# Altium schematic symbol library 2.3 - STM32 F0系列单片机.SchLib: 27 symbols (part 2 of 2)
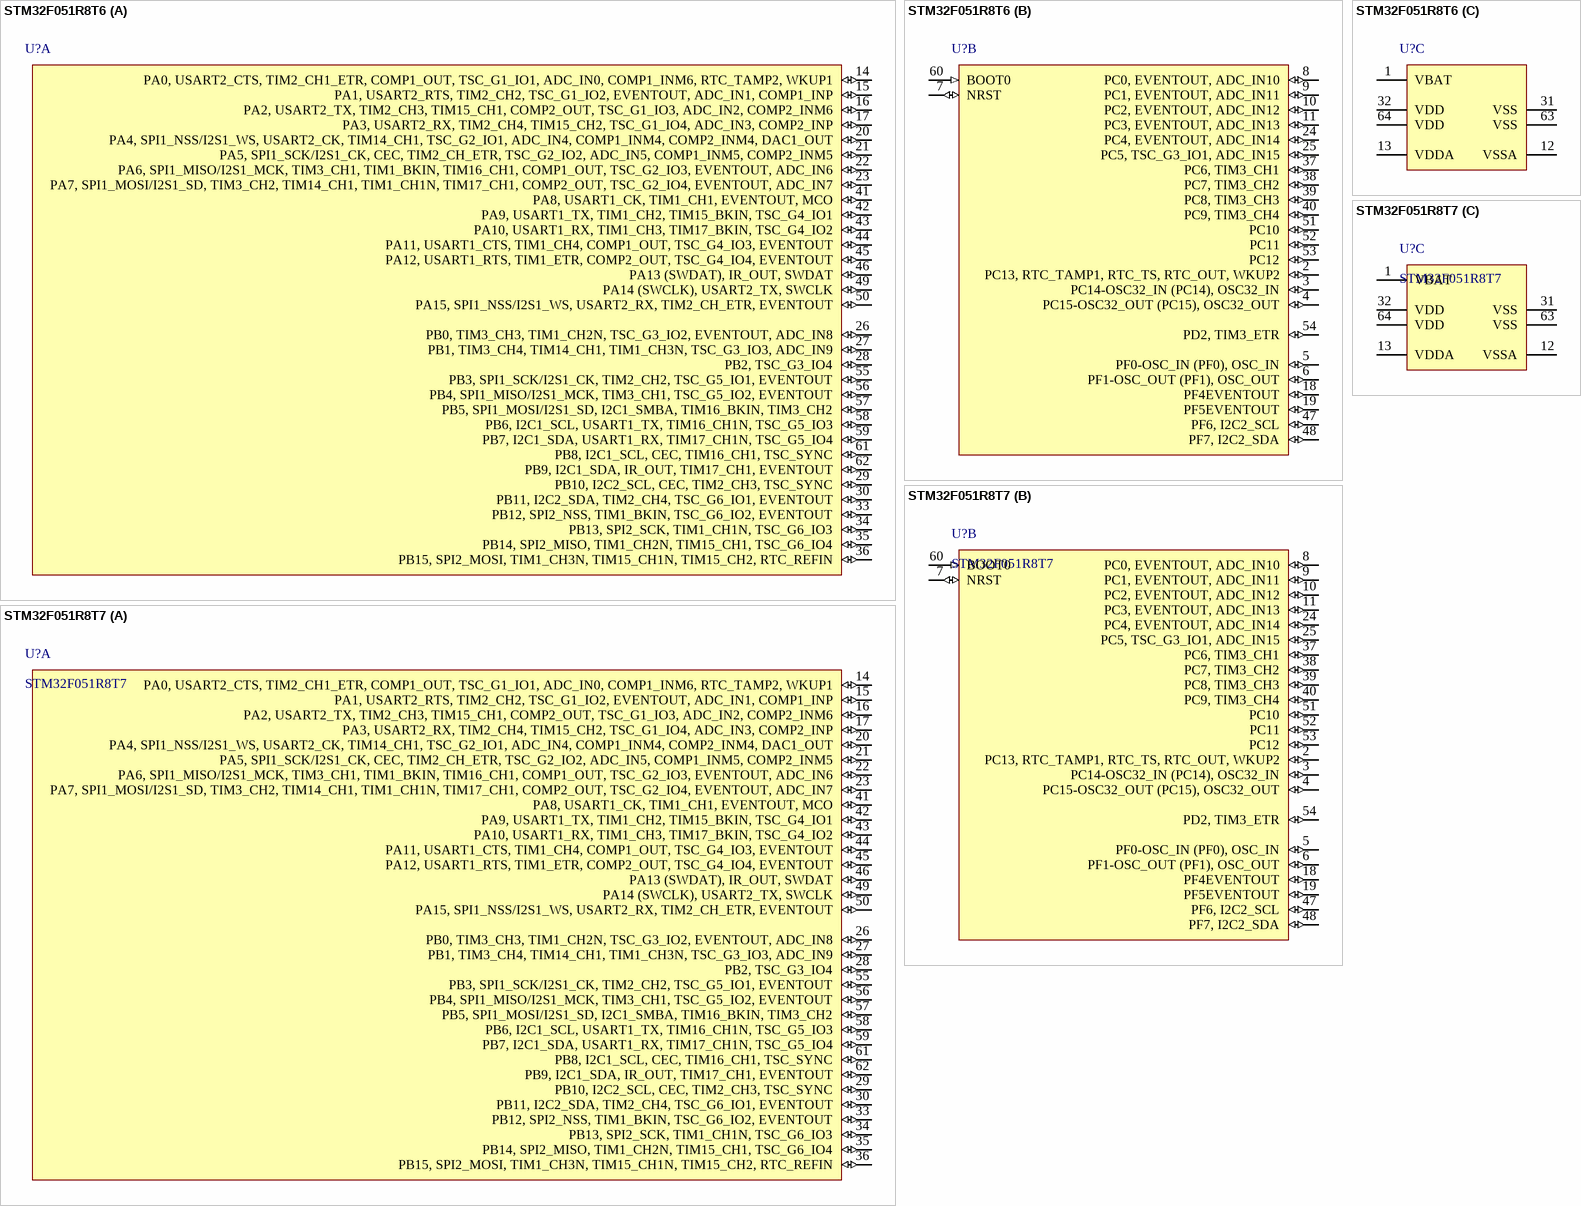
[diagram p9: symbols STM32F051R8T6 to STM32F051R8T7]

## STM32F051R8T6
designator U?
ARM Cortex-M0 32-bit RISC core (48 MHz max), 64kB Flash, 8 kB Internal RAM, 55 High Current I/Os, -40 to +85癈, 64-Pin LQFP, Tray; 0.7_ 封装规格: LQFP64; 0.6_ 封装说明: 64-Pin Low-Profile Quad Flat Pack, 10 x 10 mm Body, 0.5 mm Pitch (LQFP64); 0.2_ 16位定时器: 8x16-bit; 0.1_ 32位定时器: 1x32-bit; 0.3_ 其他定时器: 2 x WDG, RTC, 24-bit down counter; 0.4_ A/D转换: 16x12-bit; 0.5_ 串口资源: 1xSPI/I2S;1xSPI;2xI2C;2xUSART(IrDA, ISO 7816);CEC; 1.库作者: 冰凌猫; 2.库版本: v2.0 (2021.03.30); 3.交流分享: Q群514746572,开源更新,欢迎一起交流学习PCB设计; 4.作者声明: 旨为整合最全库集,欢迎转载,禁止商用！-冰凌猫; 5.备注说明: 该库已二次整合过网上各热销库,基本最全,无需重复搜购安装
footprint LQFP64_N (Thin QFP, 64-Leads, Body 10x10mm, Pitch 0.5mm, IPC Medium Density)
footprint LQFP64_L (Thin QFP, 64-Leads, Body 10x10mm, Pitch 0.5mm, IPC High Density)
footprint LQFP64_M (Thin QFP, 64-Leads, Body 10x10mm, Pitch 0.5mm, IPC Low Density)
part A pins: 14 PA0, USART2_CTS, TIM2_CH1_ETR, COMP1_OUT, TSC_G1_IO1, ADC_IN0, COMP1_INM6, RTC_TAMP2, WKUP1 (io), 15 PA1, USART2_RTS, TIM2_CH2, TSC_G1_IO2, EVENTOUT, ADC_IN1, COMP1_INP (io), 16 PA2, USART2_TX, TIM2_CH3, TIM15_CH1, COMP2_OUT, TSC_G1_IO3, ADC_IN2, COMP2_INM6 (io), 17 PA3, USART2_RX, TIM2_CH4, TIM15_CH2, TSC_G1_IO4, ADC_IN3, COMP2_INP (io), 20 PA4, SPI1_NSS/I2S1_WS, USART2_CK, TIM14_CH1, TSC_G2_IO1, ADC_IN4, COMP1_INM4, COMP2_INM4, DAC1_OUT (io), 21 PA5, SPI1_SCK/I2S1_CK, CEC, TIM2_CH_ETR, TSC_G2_IO2, ADC_IN5, COMP1_INM5, COMP2_INM5 (io), 22 PA6, SPI1_MISO/I2S1_MCK, TIM3_CH1, TIM1_BKIN, TIM16_CH1, COMP1_OUT, TSC_G2_IO3, EVENTOUT, ADC_IN6 (io), 23 PA7, SPI1_MOSI/I2S1_SD, TIM3_CH2, TIM14_CH1, TIM1_CH1N, TIM17_CH1, COMP2_OUT, TSC_G2_IO4, EVENTOUT, ADC_IN7 (io), 26 PB0, TIM3_CH3, TIM1_CH2N, TSC_G3_IO2, EVENTOUT, ADC_IN8 (io), 27 PB1, TIM3_CH4, TIM14_CH1, TIM1_CH3N, TSC_G3_IO3, ADC_IN9 (io), 28 PB2, TSC_G3_IO4 (io), 29 PB10, I2C2_SCL, CEC, TIM2_CH3, TSC_SYNC (io), 30 PB11, I2C2_SDA, TIM2_CH4, TSC_G6_IO1, EVENTOUT (io), 33 PB12, SPI2_NSS, TIM1_BKIN, TSC_G6_IO2, EVENTOUT (io), 34 PB13, SPI2_SCK, TIM1_CH1N, TSC_G6_IO3 (io), 35 PB14, SPI2_MISO, TIM1_CH2N, TIM15_CH1, TSC_G6_IO4 (io), 36 PB15, SPI2_MOSI, TIM1_CH3N, TIM15_CH1N, TIM15_CH2, RTC_REFIN (io), 41 PA8, USART1_CK, TIM1_CH1, EVENTOUT, MCO (io), 42 PA9, USART1_TX, TIM1_CH2, TIM15_BKIN, TSC_G4_IO1 (io), 43 PA10, USART1_RX, TIM1_CH3, TIM17_BKIN, TSC_G4_IO2 (io), 44 PA11, USART1_CTS, TIM1_CH4, COMP1_OUT, TSC_G4_IO3, EVENTOUT (io), 45 PA12, USART1_RTS, TIM1_ETR, COMP2_OUT, TSC_G4_IO4, EVENTOUT (io), 46 PA13 (SWDAT), IR_OUT, SWDAT (io), 49 PA14 (SWCLK), USART2_TX, SWCLK (io), 50 PA15, SPI1_NSS/I2S1_WS, USART2_RX, TIM2_CH_ETR, EVENTOUT (io), 55 PB3, SPI1_SCK/I2S1_CK, TIM2_CH2, TSC_G5_IO1, EVENTOUT (io), 56 PB4, SPI1_MISO/I2S1_MCK, TIM3_CH1, TSC_G5_IO2, EVENTOUT (io), 57 PB5, SPI1_MOSI/I2S1_SD, I2C1_SMBA, TIM16_BKIN, TIM3_CH2 (io), 58 PB6, I2C1_SCL, USART1_TX, TIM16_CH1N, TSC_G5_IO3 (io), 59 PB7, I2C1_SDA, USART1_RX, TIM17_CH1N, TSC_G5_IO4 (io), 61 PB8, I2C1_SCL, CEC, TIM16_CH1, TSC_SYNC (io), 62 PB9, I2C1_SDA, IR_OUT, TIM17_CH1, EVENTOUT (io)
part B pins: 2 PC13, RTC_TAMP1, RTC_TS, RTC_OUT, WKUP2 (io), 3 PC14-OSC32_IN (PC14), OSC32_IN (io), 4 PC15-OSC32_OUT (PC15), OSC32_OUT (io), 5 PF0-OSC_IN (PF0), OSC_IN (io), 6 PF1-OSC_OUT (PF1), OSC_OUT (io), 7 NRST (io), 8 PC0, EVENTOUT, ADC_IN10 (io), 9 PC1, EVENTOUT, ADC_IN11 (io), 10 PC2, EVENTOUT, ADC_IN12 (io), 11 PC3, EVENTOUT, ADC_IN13 (io), 18 PF4EVENTOUT (io), 19 PF5EVENTOUT (io), 24 PC4, EVENTOUT, ADC_IN14 (io), 25 PC5, TSC_G3_IO1, ADC_IN15 (io), 37 PC6, TIM3_CH1 (io), 38 PC7, TIM3_CH2 (io), 39 PC8, TIM3_CH3 (io), 40 PC9, TIM3_CH4 (io), 47 PF6, I2C2_SCL (io), 48 PF7, I2C2_SDA (io), 51 PC10 (io), 52 PC11 (io), 53 PC12 (io), 54 PD2, TIM3_ETR (io), 60 BOOT0 (in)
part C pins: 1 VBAT (power), 12 VSSA (power), 13 VDDA (power), 31 VSS (power), 32 VDD (power), 63 VSS (power), 64 VDD (power)

## STM32F051R8T7
designator U?
ARM Cortex-M0 32-bit RISC core (48 MHz max), 64kB Flash, 8 kB Internal RAM, 55 High Current I/Os, -40 to +105癈, 64-Pin LQFP, Tray; 0.7_ 封装规格: LQFP64; 0.6_ 封装说明: 64-Pin Low-Profile Quad Flat Pack, 10 x 10 mm Body, 0.5 mm Pitch (LQFP64); 0.2_ 16位定时器: 8x16-bit; 0.1_ 32位定时器: 1x32-bit; 0.3_ 其他定时器: 2 x WDG, RTC, 24-bit down counter; 0.4_ A/D转换: 16x12-bit; 0.5_ 串口资源: 1xSPI/I2S;1xSPI;2xI2C;2xUSART(IrDA, ISO 7816);CEC; 1.库作者: 冰凌猫; 2.库版本: v2.0 (2021.03.30); 3.交流分享: Q群514746572,开源更新,欢迎一起交流学习PCB设计; 4.作者声明: 旨为整合最全库集,欢迎转载,禁止商用！-冰凌猫; 5.备注说明: 该库已二次整合过网上各热销库,基本最全,无需重复搜购安装
footprint LQFP64_N (Thin QFP, 64-Leads, Body 10x10mm, Pitch 0.5mm, IPC Medium Density)
footprint LQFP64_L (Thin QFP, 64-Leads, Body 10x10mm, Pitch 0.5mm, IPC High Density)
footprint LQFP64_M (Thin QFP, 64-Leads, Body 10x10mm, Pitch 0.5mm, IPC Low Density)
part A pins: 14 PA0, USART2_CTS, TIM2_CH1_ETR, COMP1_OUT, TSC_G1_IO1, ADC_IN0, COMP1_INM6, RTC_TAMP2, WKUP1 (io), 15 PA1, USART2_RTS, TIM2_CH2, TSC_G1_IO2, EVENTOUT, ADC_IN1, COMP1_INP (io), 16 PA2, USART2_TX, TIM2_CH3, TIM15_CH1, COMP2_OUT, TSC_G1_IO3, ADC_IN2, COMP2_INM6 (io), 17 PA3, USART2_RX, TIM2_CH4, TIM15_CH2, TSC_G1_IO4, ADC_IN3, COMP2_INP (io), 20 PA4, SPI1_NSS/I2S1_WS, USART2_CK, TIM14_CH1, TSC_G2_IO1, ADC_IN4, COMP1_INM4, COMP2_INM4, DAC1_OUT (io), 21 PA5, SPI1_SCK/I2S1_CK, CEC, TIM2_CH_ETR, TSC_G2_IO2, ADC_IN5, COMP1_INM5, COMP2_INM5 (io), 22 PA6, SPI1_MISO/I2S1_MCK, TIM3_CH1, TIM1_BKIN, TIM16_CH1, COMP1_OUT, TSC_G2_IO3, EVENTOUT, ADC_IN6 (io), 23 PA7, SPI1_MOSI/I2S1_SD, TIM3_CH2, TIM14_CH1, TIM1_CH1N, TIM17_CH1, COMP2_OUT, TSC_G2_IO4, EVENTOUT, ADC_IN7 (io), 26 PB0, TIM3_CH3, TIM1_CH2N, TSC_G3_IO2, EVENTOUT, ADC_IN8 (io), 27 PB1, TIM3_CH4, TIM14_CH1, TIM1_CH3N, TSC_G3_IO3, ADC_IN9 (io), 28 PB2, TSC_G3_IO4 (io), 29 PB10, I2C2_SCL, CEC, TIM2_CH3, TSC_SYNC (io), 30 PB11, I2C2_SDA, TIM2_CH4, TSC_G6_IO1, EVENTOUT (io), 33 PB12, SPI2_NSS, TIM1_BKIN, TSC_G6_IO2, EVENTOUT (io), 34 PB13, SPI2_SCK, TIM1_CH1N, TSC_G6_IO3 (io), 35 PB14, SPI2_MISO, TIM1_CH2N, TIM15_CH1, TSC_G6_IO4 (io), 36 PB15, SPI2_MOSI, TIM1_CH3N, TIM15_CH1N, TIM15_CH2, RTC_REFIN (io), 41 PA8, USART1_CK, TIM1_CH1, EVENTOUT, MCO (io), 42 PA9, USART1_TX, TIM1_CH2, TIM15_BKIN, TSC_G4_IO1 (io), 43 PA10, USART1_RX, TIM1_CH3, TIM17_BKIN, TSC_G4_IO2 (io), 44 PA11, USART1_CTS, TIM1_CH4, COMP1_OUT, TSC_G4_IO3, EVENTOUT (io), 45 PA12, USART1_RTS, TIM1_ETR, COMP2_OUT, TSC_G4_IO4, EVENTOUT (io), 46 PA13 (SWDAT), IR_OUT, SWDAT (io), 49 PA14 (SWCLK), USART2_TX, SWCLK (io), 50 PA15, SPI1_NSS/I2S1_WS, USART2_RX, TIM2_CH_ETR, EVENTOUT (io), 55 PB3, SPI1_SCK/I2S1_CK, TIM2_CH2, TSC_G5_IO1, EVENTOUT (io), 56 PB4, SPI1_MISO/I2S1_MCK, TIM3_CH1, TSC_G5_IO2, EVENTOUT (io), 57 PB5, SPI1_MOSI/I2S1_SD, I2C1_SMBA, TIM16_BKIN, TIM3_CH2 (io), 58 PB6, I2C1_SCL, USART1_TX, TIM16_CH1N, TSC_G5_IO3 (io), 59 PB7, I2C1_SDA, USART1_RX, TIM17_CH1N, TSC_G5_IO4 (io), 61 PB8, I2C1_SCL, CEC, TIM16_CH1, TSC_SYNC (io), 62 PB9, I2C1_SDA, IR_OUT, TIM17_CH1, EVENTOUT (io)
part B pins: 2 PC13, RTC_TAMP1, RTC_TS, RTC_OUT, WKUP2 (io), 3 PC14-OSC32_IN (PC14), OSC32_IN (io), 4 PC15-OSC32_OUT (PC15), OSC32_OUT (io), 5 PF0-OSC_IN (PF0), OSC_IN (io), 6 PF1-OSC_OUT (PF1), OSC_OUT (io), 7 NRST (io), 8 PC0, EVENTOUT, ADC_IN10 (io), 9 PC1, EVENTOUT, ADC_IN11 (io), 10 PC2, EVENTOUT, ADC_IN12 (io), 11 PC3, EVENTOUT, ADC_IN13 (io), 18 PF4EVENTOUT (io), 19 PF5EVENTOUT (io), 24 PC4, EVENTOUT, ADC_IN14 (io), 25 PC5, TSC_G3_IO1, ADC_IN15 (io), 37 PC6, TIM3_CH1 (io), 38 PC7, TIM3_CH2 (io), 39 PC8, TIM3_CH3 (io), 40 PC9, TIM3_CH4 (io), 47 PF6, I2C2_SCL (io), 48 PF7, I2C2_SDA (io), 51 PC10 (io), 52 PC11 (io), 53 PC12 (io), 54 PD2, TIM3_ETR (io), 60 BOOT0 (in)
part C pins: 1 VBAT (power), 12 VSSA (power), 13 VDDA (power), 31 VSS (power), 32 VDD (power), 63 VSS (power), 64 VDD (power)

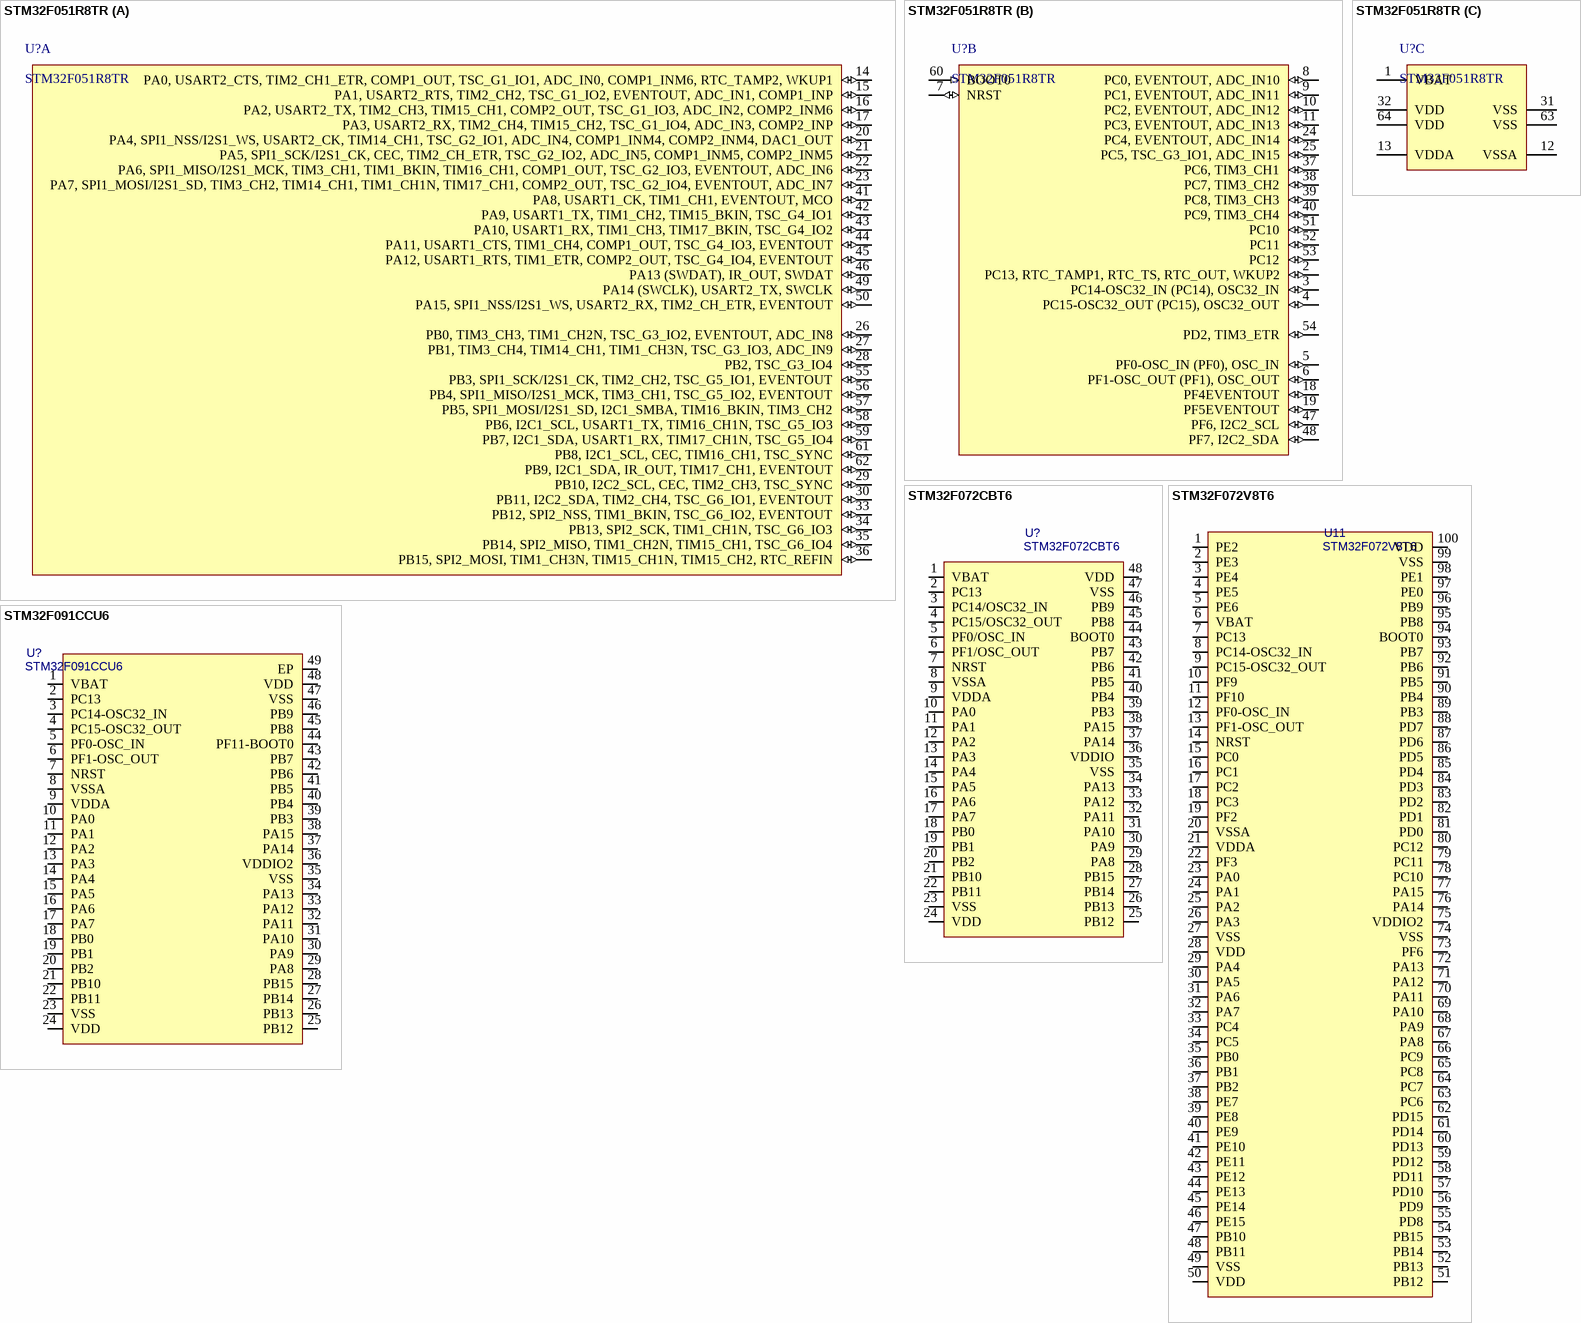
[diagram p8: symbols STM32F051R8TR to STM32F091CCU6]

## STM32F051R8TR
designator U?
ARM Cortex-M0 32-bit RISC core (48 MHz max), 64kB Flash, 8 kB Internal RAM, 55 High Current I/Os, -40 to +105癈, 64-Pin LQFP, Tape and Reel; 0.7_ 封装规格: LQFP64; 0.6_ 封装说明: 64-Pin Low-Profile Quad Flat Pack, 10 x 10 mm Body, 0.5 mm Pitch (LQFP64); 0.2_ 16位定时器: 8x16-bit; 0.1_ 32位定时器: 1x32-bit; 0.3_ 其他定时器: 2 x WDG, RTC, 24-bit down counter; 0.4_ A/D转换: 16x12-bit; 0.5_ 串口资源: 1xSPI/I2S;1xSPI;2xI2C;2xUSART(IrDA, ISO 7816);CEC; 1.库作者: 冰凌猫; 2.库版本: v2.0 (2021.03.30); 3.交流分享: Q群514746572,开源更新,欢迎一起交流学习PCB设计; 4.作者声明: 旨为整合最全库集,欢迎转载,禁止商用！-冰凌猫; 5.备注说明: 该库已二次整合过网上各热销库,基本最全,无需重复搜购安装
footprint LQFP64_N (Thin QFP, 64-Leads, Body 10x10mm, Pitch 0.5mm, IPC Medium Density)
footprint LQFP64_L (Thin QFP, 64-Leads, Body 10x10mm, Pitch 0.5mm, IPC High Density)
footprint LQFP64_M (Thin QFP, 64-Leads, Body 10x10mm, Pitch 0.5mm, IPC Low Density)
part A pins: 14 PA0, USART2_CTS, TIM2_CH1_ETR, COMP1_OUT, TSC_G1_IO1, ADC_IN0, COMP1_INM6, RTC_TAMP2, WKUP1 (io), 15 PA1, USART2_RTS, TIM2_CH2, TSC_G1_IO2, EVENTOUT, ADC_IN1, COMP1_INP (io), 16 PA2, USART2_TX, TIM2_CH3, TIM15_CH1, COMP2_OUT, TSC_G1_IO3, ADC_IN2, COMP2_INM6 (io), 17 PA3, USART2_RX, TIM2_CH4, TIM15_CH2, TSC_G1_IO4, ADC_IN3, COMP2_INP (io), 20 PA4, SPI1_NSS/I2S1_WS, USART2_CK, TIM14_CH1, TSC_G2_IO1, ADC_IN4, COMP1_INM4, COMP2_INM4, DAC1_OUT (io), 21 PA5, SPI1_SCK/I2S1_CK, CEC, TIM2_CH_ETR, TSC_G2_IO2, ADC_IN5, COMP1_INM5, COMP2_INM5 (io), 22 PA6, SPI1_MISO/I2S1_MCK, TIM3_CH1, TIM1_BKIN, TIM16_CH1, COMP1_OUT, TSC_G2_IO3, EVENTOUT, ADC_IN6 (io), 23 PA7, SPI1_MOSI/I2S1_SD, TIM3_CH2, TIM14_CH1, TIM1_CH1N, TIM17_CH1, COMP2_OUT, TSC_G2_IO4, EVENTOUT, ADC_IN7 (io), 26 PB0, TIM3_CH3, TIM1_CH2N, TSC_G3_IO2, EVENTOUT, ADC_IN8 (io), 27 PB1, TIM3_CH4, TIM14_CH1, TIM1_CH3N, TSC_G3_IO3, ADC_IN9 (io), 28 PB2, TSC_G3_IO4 (io), 29 PB10, I2C2_SCL, CEC, TIM2_CH3, TSC_SYNC (io), 30 PB11, I2C2_SDA, TIM2_CH4, TSC_G6_IO1, EVENTOUT (io), 33 PB12, SPI2_NSS, TIM1_BKIN, TSC_G6_IO2, EVENTOUT (io), 34 PB13, SPI2_SCK, TIM1_CH1N, TSC_G6_IO3 (io), 35 PB14, SPI2_MISO, TIM1_CH2N, TIM15_CH1, TSC_G6_IO4 (io), 36 PB15, SPI2_MOSI, TIM1_CH3N, TIM15_CH1N, TIM15_CH2, RTC_REFIN (io), 41 PA8, USART1_CK, TIM1_CH1, EVENTOUT, MCO (io), 42 PA9, USART1_TX, TIM1_CH2, TIM15_BKIN, TSC_G4_IO1 (io), 43 PA10, USART1_RX, TIM1_CH3, TIM17_BKIN, TSC_G4_IO2 (io), 44 PA11, USART1_CTS, TIM1_CH4, COMP1_OUT, TSC_G4_IO3, EVENTOUT (io), 45 PA12, USART1_RTS, TIM1_ETR, COMP2_OUT, TSC_G4_IO4, EVENTOUT (io), 46 PA13 (SWDAT), IR_OUT, SWDAT (io), 49 PA14 (SWCLK), USART2_TX, SWCLK (io), 50 PA15, SPI1_NSS/I2S1_WS, USART2_RX, TIM2_CH_ETR, EVENTOUT (io), 55 PB3, SPI1_SCK/I2S1_CK, TIM2_CH2, TSC_G5_IO1, EVENTOUT (io), 56 PB4, SPI1_MISO/I2S1_MCK, TIM3_CH1, TSC_G5_IO2, EVENTOUT (io), 57 PB5, SPI1_MOSI/I2S1_SD, I2C1_SMBA, TIM16_BKIN, TIM3_CH2 (io), 58 PB6, I2C1_SCL, USART1_TX, TIM16_CH1N, TSC_G5_IO3 (io), 59 PB7, I2C1_SDA, USART1_RX, TIM17_CH1N, TSC_G5_IO4 (io), 61 PB8, I2C1_SCL, CEC, TIM16_CH1, TSC_SYNC (io), 62 PB9, I2C1_SDA, IR_OUT, TIM17_CH1, EVENTOUT (io)
part B pins: 2 PC13, RTC_TAMP1, RTC_TS, RTC_OUT, WKUP2 (io), 3 PC14-OSC32_IN (PC14), OSC32_IN (io), 4 PC15-OSC32_OUT (PC15), OSC32_OUT (io), 5 PF0-OSC_IN (PF0), OSC_IN (io), 6 PF1-OSC_OUT (PF1), OSC_OUT (io), 7 NRST (io), 8 PC0, EVENTOUT, ADC_IN10 (io), 9 PC1, EVENTOUT, ADC_IN11 (io), 10 PC2, EVENTOUT, ADC_IN12 (io), 11 PC3, EVENTOUT, ADC_IN13 (io), 18 PF4EVENTOUT (io), 19 PF5EVENTOUT (io), 24 PC4, EVENTOUT, ADC_IN14 (io), 25 PC5, TSC_G3_IO1, ADC_IN15 (io), 37 PC6, TIM3_CH1 (io), 38 PC7, TIM3_CH2 (io), 39 PC8, TIM3_CH3 (io), 40 PC9, TIM3_CH4 (io), 47 PF6, I2C2_SCL (io), 48 PF7, I2C2_SDA (io), 51 PC10 (io), 52 PC11 (io), 53 PC12 (io), 54 PD2, TIM3_ETR (io), 60 BOOT0 (in)
part C pins: 1 VBAT (power), 12 VSSA (power), 13 VDDA (power), 31 VSS (power), 32 VDD (power), 63 VSS (power), 64 VDD (power)

## STM32F072CBT6
designator U?
1.库作者: 冰凌猫; 2.库版本: v2.0 (2021.03.30); 3.交流分享: Q群514746572,开源更新,欢迎一起交流学习PCB设计; 4.作者声明: 旨为整合最全库集,欢迎转载,禁止商用！-冰凌猫; 5.备注说明: 该库已二次整合过网上各热销库,基本最全,无需重复搜购安装
footprint LQFP48_N
pins: 1 VBAT, 2 PC13, 3 PC14/OSC32_IN, 4 PC15/OSC32_OUT, 5 PF0/OSC_IN, 6 PF1/OSC_OUT, 7 NRST, 8 VSSA, 9 VDDA, 10 PA0, 11 PA1, 12 PA2, 13 PA3, 14 PA4, 15 PA5, 16 PA6, 17 PA7, 18 PB0, 19 PB1, 20 PB2, 21 PB10, 22 PB11, 23 VSS, 24 VDD, 25 PB12, 26 PB13, 27 PB14, 28 PB15, 29 PA8, 30 PA9, 31 PA10, 32 PA11, 33 PA12, 34 PA13, 35 VSS, 36 VDDIO, 37 PA14, 38 PA15, 39 PB3, 40 PB4, 41 PB5, 42 PB6, 43 PB7, 44 BOOT0, 45 PB8, 46 PB9, 47 VSS, 48 VDD

## STM32F072V8T6
designator U11
1.库作者: 冰凌猫; 2.库版本: v2.0 (2021.03.30); 3.交流分享: Q群514746572,开源更新,欢迎一起交流学习PCB设计; 4.作者声明: 旨为整合最全库集,欢迎转载,禁止商用！-冰凌猫; 5.备注说明: 该库已二次整合过网上各热销库,基本最全,无需重复搜购安装
footprint LQFP100_L
footprint LQFP100_N
footprint LQFP100_M
pins: 1 PE2, 2 PE3, 3 PE4, 4 PE5, 5 PE6, 6 VBAT, 7 PC13, 8 PC14-OSC32_IN, 9 PC15-OSC32_OUT, 10 PF9, 11 PF10, 12 PF0-OSC_IN, 13 PF1-OSC_OUT, 14 NRST, 15 PC0, 16 PC1, 17 PC2, 18 PC3, 19 PF2, 20 VSSA, 21 VDDA, 22 PF3, 23 PA0, 24 PA1, 25 PA2, 26 PA3, 27 VSS, 28 VDD, 29 PA4, 30 PA5, 31 PA6, 32 PA7, 33 PC4, 34 PC5, 35 PB0, 36 PB1, 37 PB2, 38 PE7, 39 PE8, 40 PE9, 41 PE10, 42 PE11, 43 PE12, 44 PE13, 45 PE14, 46 PE15, 47 PB10, 48 PB11, 49 VSS, 50 VDD, 51 PB12, 52 PB13, 53 PB14, 54 PB15, 55 PD8, 56 PD9, 57 PD10, 58 PD11, 59 PD12, 60 PD13, 61 PD14, 62 PD15, 63 PC6, 64 PC7, 65 PC8, 66 PC9, 67 PA8, 68 PA9, 69 PA10, 70 PA11, 71 PA12, 72 PA13, 73 PF6, 74 VSS, 75 VDDIO2, 76 PA14, 77 PA15, 78 PC10, 79 PC11, 80 PC12, 81 PD0, 82 PD1, 83 PD2, 84 PD3, 85 PD4, 86 PD5, 87 PD6, 88 PD7, 89 PB3, 90 PB4, 91 PB5, 92 PB6, 93 PB7, 94 BOOT0, 95 PB8, 96 PB9, 97 PE0, 98 PE1, 99 VSS, 100 VDD

## STM32F091CCU6
designator U?
1.库作者: 冰凌猫; 2.库版本: v2.0 (2021.03.30); 3.交流分享: Q群514746572,开源更新,欢迎一起交流学习PCB设计; 4.作者声明: 旨为整合最全库集,欢迎转载,禁止商用！-冰凌猫; 5.备注说明: 该库已二次整合过网上各热销库,基本最全,无需重复搜购安装
footprint UFQFPN48_N
pins: 1 VBAT, 2 PC13, 3 PC14-OSC32_IN, 4 PC15-OSC32_OUT, 5 PF0-OSC_IN, 6 PF1-OSC_OUT, 7 NRST, 8 VSSA, 9 VDDA, 10 PA0, 11 PA1, 12 PA2, 13 PA3, 14 PA4, 15 PA5, 16 PA6, 17 PA7, 18 PB0, 19 PB1, 20 PB2, 21 PB10, 22 PB11, 23 VSS, 24 VDD, 25 PB12, 26 PB13, 27 PB14, 28 PB15, 29 PA8, 30 PA9, 31 PA10, 32 PA11, 33 PA12, 34 PA13, 35 VSS, 36 VDDIO2, 37 PA14, 38 PA15, 39 PB3, 40 PB4, 41 PB5, 42 PB6, 43 PB7, 44 PF11-BOOT0, 45 PB8, 46 PB9, 47 VSS, 48 VDD, 49 EP